# Altium footprint library Terminal Block P5.08-2P.PcbLib: 1 footprints
Each footprint in its own frame and in the unit in brackets; x right, y up, seen from the top. Pads: shape width x height; smd on the part's side, far side on the other; paste and mask are expansions set on the pad; w line width, h text height; cw(c..) or ccw(c..) is an arc to the next point about the centre after c.
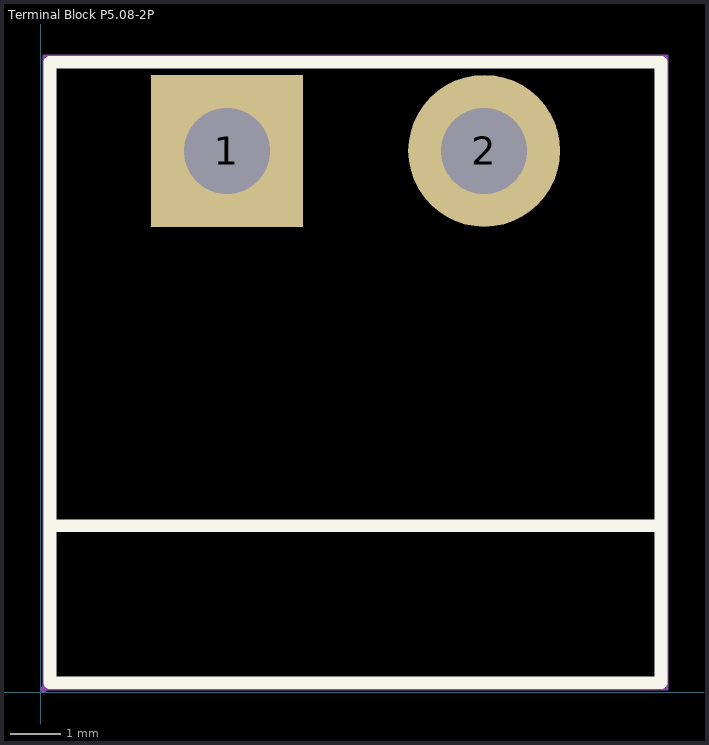
[diagram p0: the footprint, top view; thin cyan lines are the x and y axes]

## Terminal Block P5.08-2P [mm]
pads (2):
  rect 3x3 hole 1.7 paste-2539.97 mask+0.051: 1(3.677,10.687)
  round 3 hole 1.7 paste-2539.97 mask+0.051: 2(8.757,10.687)
Top Overlay:
  lines w0.254: 0.187,3.287 12.247,3.287 ; 0.187,12.387 0.187,0.187 12.247,0.187 12.247,12.387 ; 0.187,12.437 12.247,12.437
Mechanical 15:
  region: 4.427,10.687 4.426,10.785 4.373,10.974 4.274,11.143 4.135,11.281 3.965,11.378 3.775,11.428 3.579,11.428 3.39,11.378 3.22,11.281 3.08,11.143 2.981,10.974 2.928,10.785 2.927,10.687 2.928,10.589 2.981,10.4 3.08,10.231 3.219,10.093 3.39,9.996 3.579,9.946 3.775,9.946 3.964,9.996 4.135,10.093 4.274,10.231 4.373,10.4 4.426,10.589
  region: 9.507,10.687 9.506,10.785 9.453,10.974 9.354,11.143 9.215,11.281 9.045,11.378 8.855,11.428 8.659,11.428 8.47,11.378 8.3,11.281 8.16,11.143 8.061,10.974 8.008,10.785 8.007,10.687 8.008,10.589 8.061,10.4 8.16,10.231 8.299,10.093 8.47,9.996 8.659,9.946 8.855,9.946 9.044,9.996 9.215,10.093 9.354,10.231 9.453,10.4 9.506,10.589
  region: 0.12,0.06 0.12,0.085 0.085,0.12 0.035,0.12 0,0.085 0,0.06 0,0.035 0.035,0 0.085,0 0.12,0.035
  lines w0.051: 0.06,0.06 12.374,0.06 12.374,12.564 0.06,12.564 0.06,0.06
3D body "Terminal Block P5.08-2P.stp": height 8.28, standoff -3.57, extent 0.106,0.7 12.086,12.7